# EAGLE library part 62130821021 (library Header_R_ESP32)
1.27mm SMT Straight Dual Pin Header WR-PHD 8POS Manufacturer's datasheet <https://katalog.we-online.com/em/datasheet/62130821021.pdf>
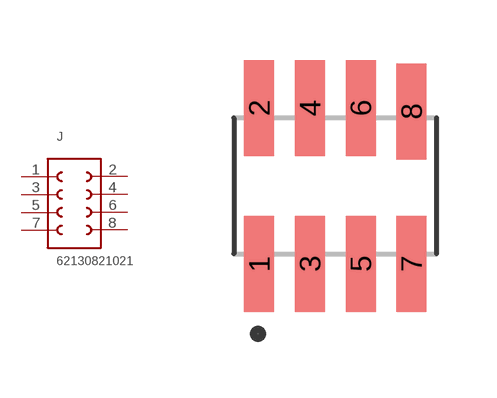
[diagram p31: symbol with the pads of 62130821021; footprint 62130821021]

Designator prefix J

## 62130821021 (CREATED_BY: PCBLayout.com; MANUFACTURER: WURTH ELEKTRONIK; MPN: 62130821021)  [62130821021]
1  1  pas
2  2  pas
3  3  pas
4  4  pas
5  5  pas
6  6  pas
7  7  pas
8  8  pas

## Footprint 62130821021 (pad centres in mm)
smd 0.75 x 2.4: 1 -1.905,-1.95; 2 -1.905,1.95; 3 -0.635,-1.95; 4 -0.635,1.95; 5 0.635,-1.95; 6 0.635,1.95; 7 1.905,-1.95; 8 1.905,1.86